# EAGLE library part MAX30003CTI+ (library MAX30003CTI_)
None Check availability <https://pricing.snapeda.com/parts/MAX30003CTI%2B/Maxim%20Integrated/view-part?ref=eda>
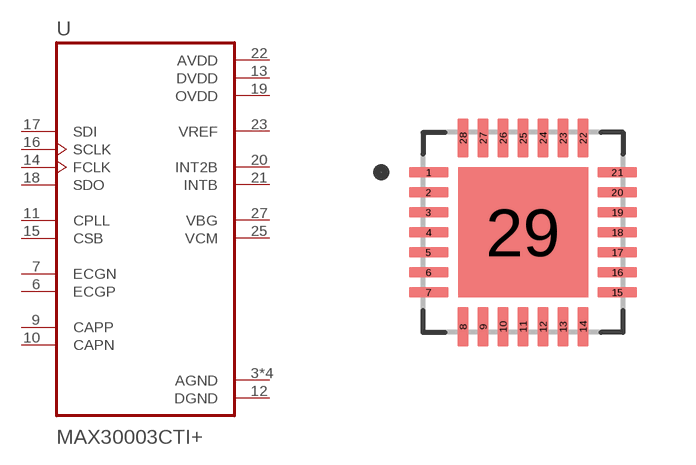
[diagram p0: symbol with the pads of QFN50P500X500X80-29N; footprint QFN50P500X500X80-29N]

Designator prefix U

## MAX30003CTI+ (Availability: In Stock; Description: ECG Front End 28-TQFN (5x5); MF: Maxim Integrated; MP: MAX30003CTI+; Package: TQFN-28 Maxim; Price: None; Purchase-URL: https://pricing.snapeda.com/search/part/MAX30003CTI+/?ref=eda)  [QFN50P500X500X80-29N]
3  AGND  pwr
6  ECGP  in
7  ECGN  in
8  AGND  pwr
9  CAPP  in
10  CAPN  in
11  CPLL  in
12  DGND  pwr
13  DVDD  pwr
14  FCLK  in
15  CSB  in
16  SCLK  in
17  SDI  in
18  SDO  out
19  OVDD  pwr
20  INT2B  out
21  INTB  out
22  AVDD  pwr
23  VREF  out
25  VCM  out
27  VBG  out
28  AGND  pwr
29  AGND  pwr

## Footprint QFN50P500X500X80-29N (pad centres in mm)
smd 0.99 x 0.27: 1 -2.36,1.5; 2 -2.36,1; 3 -2.36,0.5; 4 -2.36,0; 5 -2.36,-0.5; 6 -2.36,-1; 7 -2.36,-1.5; 15 2.36,-1.5; 16 2.36,-1; 17 2.36,-0.5; 18 2.36,0; 19 2.36,0.5; 20 2.36,1; 21 2.36,1.5
smd 0.27 x 0.99: 8 -1.5,-2.36; 9 -1,-2.36; 10 -0.5,-2.36; 11 0,-2.36; 12 0.5,-2.36; 13 1,-2.36; 14 1.5,-2.36; 22 1.5,2.36; 23 1,2.36; 24 0.5,2.36; 25 0,2.36; 26 -0.5,2.36; 27 -1,2.36; 28 -1.5,2.36
smd 3.25 x 3.25: 29 0,0